# EAGLE library part AD5258BRMZ1-R7 (library AD5258BRMZ1-R7)
Nonvolatile, I2C-Compatible 64-Position, Digital Pot Check prices <https://pricing.snapeda.com/parts/AD5258BRMZ1-R7/Analog%20Devices%20Inc./view-part?ref=eda>
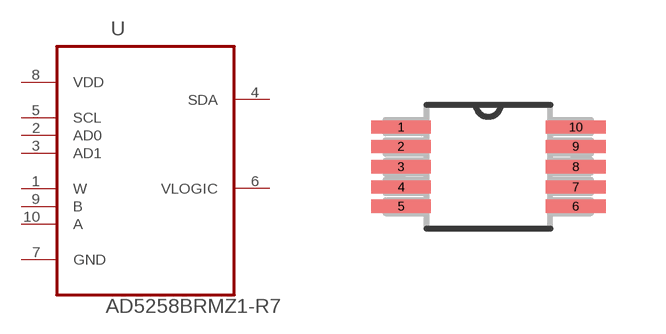
[diagram p0: symbol with the pads of SOP50P490X110-10N; footprint SOP50P490X110-10N]

Designator prefix U

## AD5258BRMZ1-R7 (Availability: Good; Description: Digital Potentiometer 1k Ohm 1 Circuit 64 Taps I²C Interface 10-MSOP; MF: Analog Devices Inc.; MP: AD5258BRMZ1-R7; Package: None; Price: None; Purchase-URL: https://pricing.snapeda.com/search/part/AD5258BRMZ1-R7/?ref=eda)  [SOP50P490X110-10N]
1  W  pas
2  AD0  pas
3  AD1  pas
4  SDA  out
5  SCL  pas
6  VLOGIC  pas
7  GND  pas
8  VDD  pwr
9  B  pas
10  A  pas

## Footprint SOP50P490X110-10N (pad centres in mm)
smd 1.499 x 0.33: 1 -2.184,0.991; 2 -2.184,0.508; 3 -2.184,0; 4 -2.184,-0.508; 5 -2.184,-0.991; 6 2.184,-0.991; 7 2.184,-0.508; 8 2.184,0; 9 2.184,0.508; 10 2.184,0.991